# Altium schematic symbol library arduinopromini.SchLib: 1 symbol
Pins are listed as number, name and electrical type; pins without a type are passive.

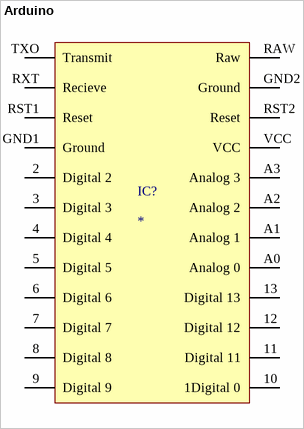
[diagram p0: symbol Arduino]

## Arduino
designator IC?
Arduino Pro Mini
footprint Arduino Pro Mini
pins: 2 Digital 2, 3 Digital 3, 4 Digital 4, 5 Digital 5, 6 Digital 6, 7 Digital 7, 8 Digital 8, 9 Digital 9, 10 1Digital 0, 11 Digital 11, 12 Digital 12, 13 Digital 13, A0 Analog 0, A1 Analog 1, A2 Analog 2, A3 Analog 3, GND1 Ground, GND2 Ground, RAW Raw, RST1 Reset, RST2 Reset, RXT Recieve, TXO Transmit, VCC